# EAGLE library part B8P-VH (library jst-vh)
Wire-to-Board 3.96mm pitch top mount connector Source: http://www.jst-mfg.com/product/pdf/jpn/VH.pdf http://www.jst-mfg.com/product/detail.php?series=262
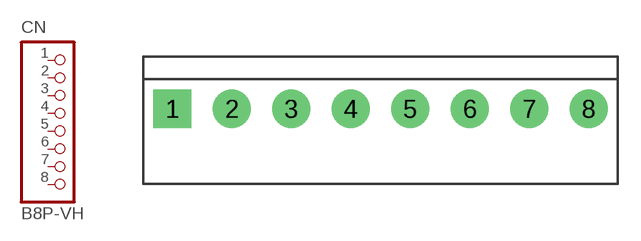
[diagram p2: symbol with the pads of B8P-VH; footprint B8P-VH]

Designator prefix CN

## B8P-VH  [B8P-VH]
1  1  pas
2  2  pas
3  3  pas
4  4  pas
5  5  pas
6  6  pas
7  7  pas
8  8  pas

## Footprint B8P-VH (pad centres in mm)
drill 1.7 square: 1 -13.86,0
drill 1.7: 2 -9.9,0; 3 -5.94,0; 4 -1.98,0; 5 1.98,0; 6 5.94,0; 7 9.9,0; 8 13.86,0